# EAGLE library part MIC23150 (library DFN8G-0.5-2X2MM)
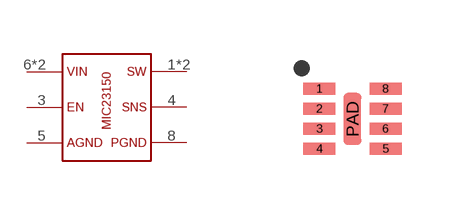
[diagram p0: symbol with the pads of DFN8G-0.5-2X2MM; footprint DFN8G-0.5-2X2MM]

Designator prefix -

## MIC23150  [DFN8G-0.5-2X2MM]
1  P$6
2  P$6
3  P$2
4  P$5
5  P$3
6  P$1
7  P$1
8  P$4

## Footprint DFN8G-0.5-2X2MM (pad centres in mm)
smd 0.8 x 0.3: 1 -0.827,0.75; 2 -0.827,0.25; 3 -0.827,-0.25; 4 -0.827,-0.75; 5 0.827,-0.75; 6 0.827,-0.25; 7 0.827,0.25; 8 0.827,0.75
smd 0.45 x 1.3: PAD 0,0